# Altium integrated library Altium Database Library V2.IntLib: 825 symbols (part 1 of 40)
Pins are listed as number, name and electrical type; pins without a type are passive.

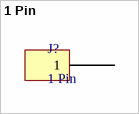
[diagram p0: symbol 1 Pin]

## 1 Pin
designator J?
pins: 1


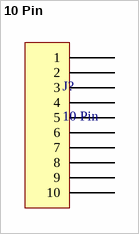
[diagram p1: symbol 10 Pin]

## 10 Pin
designator J?
pins: 1, 2, 3, 4, 5, 6, 7, 8, 9, 10


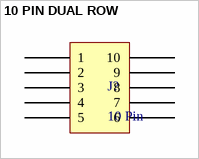
[diagram p2: symbol 10 PIN DUAL ROW]

## 10 PIN DUAL ROW
designator J?, comment 10 Pin
pins: 1, 2, 3, 4, 5, 6, 7, 8, 9, 10


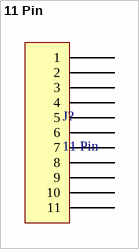
[diagram p3: symbol 11 Pin]

## 11 Pin
designator J?
pins: 1, 2, 3, 4, 5, 6, 7, 8, 9, 10, 11


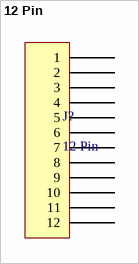
[diagram p4: symbol 12 Pin]

## 12 Pin
designator J?
pins: 1, 2, 3, 4, 5, 6, 7, 8, 9, 10, 11, 12


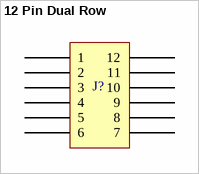
[diagram p5: symbol 12 Pin Dual Row]

## 12 Pin Dual Row
designator J?
pins: 1, 2, 3, 4, 5, 6, 7, 8, 9, 10, 11, 12


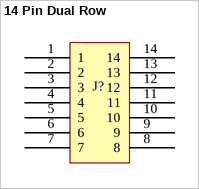
[diagram p6: symbol 14 Pin Dual Row]

## 14 Pin Dual Row
designator J?
pins: 1, 2, 3, 4, 5, 6, 7, 8, 9, 10, 11, 12, 13, 14


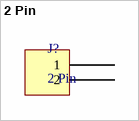
[diagram p7: symbol 2 Pin]

## 2 Pin
designator J?
pins: 1, 2


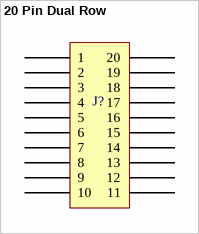
[diagram p8: symbol 20 Pin Dual Row]

## 20 Pin Dual Row
designator J?
pins: 1, 2, 3, 4, 5, 6, 7, 8, 9, 10, 11, 12, 13, 14, 15, 16, 17, 18, 19, 20


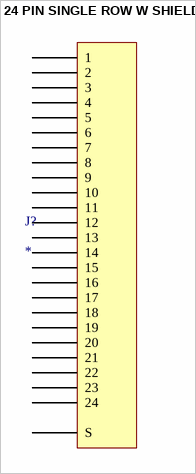
[diagram p9: symbol 24 PIN SINGLE ROW W SHIELD]

## 24 PIN SINGLE ROW W SHIELD
designator J?
pins: 1, 2, 3, 4, 5, 6, 7, 8, 9, 10, 11, 12, 13, 14, 15, 16, 17, 18, 19, 20, 21, 22, 23, 24, S


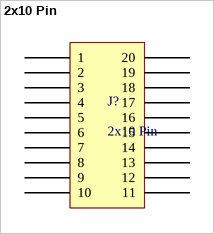
[diagram p10: symbol 2x10 Pin]

## 2x10 Pin
designator J?
pins: 1, 2, 3, 4, 5, 6, 7, 8, 9, 10, 11, 12, 13, 14, 15, 16, 17, 18, 19, 20


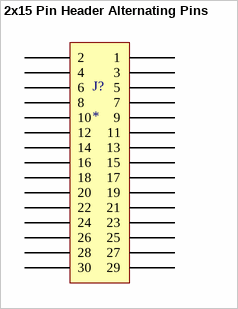
[diagram p11: symbol 2x15 Pin Header Alternating Pins]

## 2x15 Pin Header Alternating Pins
designator J?
pins: 1, 2, 3, 4, 5, 6, 7, 8, 9, 10, 11, 12, 13, 14, 15, 16, 17, 18, 19, 20, 21, 22, 23, 24, 25, 26, 27, 28, 29, 30


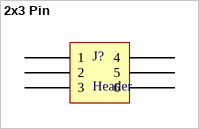
[diagram p12: symbol 2x3 Pin]

## 2x3 Pin
designator J?, comment Header
pins: 1, 2, 3, 4, 5, 6


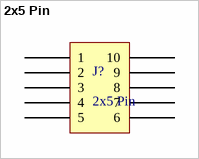
[diagram p13: symbol 2x5 Pin]

## 2x5 Pin
designator J?
pins: 1, 2, 3, 4, 5, 6, 7, 8, 9, 10


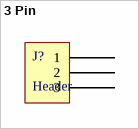
[diagram p14: symbol 3 Pin]

## 3 Pin
designator J?, comment Header
pins: 1, 2, 3


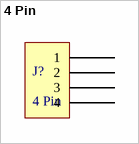
[diagram p15: symbol 4 Pin]

## 4 Pin
designator J?
pins: 1, 2, 3, 4


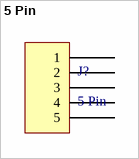
[diagram p16: symbol 5 Pin]

## 5 Pin
designator J?
pins: 1, 2, 3, 4, 5


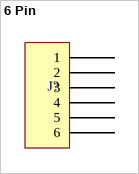
[diagram p17: symbol 6 Pin]

## 6 Pin
designator J?
pins: 1, 2, 3, 4, 5, 6


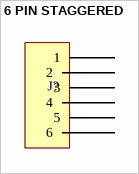
[diagram p18: symbol 6 PIN STAGGERED]

## 6 PIN STAGGERED
designator J?
pins: 1, 2, 3, 4, 5, 6


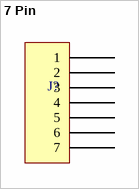
[diagram p19: symbol 7 Pin]

## 7 Pin
designator J?
pins: 1, 2, 3, 4, 5, 6, 7


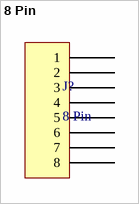
[diagram p20: symbol 8 Pin]

## 8 Pin
designator J?
pins: 1, 2, 3, 4, 5, 6, 7, 8


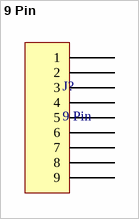
[diagram p21: symbol 9 Pin]

## 9 Pin
designator J?
pins: 1, 2, 3, 4, 5, 6, 7, 8, 9


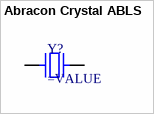
[diagram p22: symbol Abracon Crystal ABLS]

## Abracon Crystal ABLS
designator Y?
SMT Crystal
pins: 1, 2
